# Altium schematic symbol library MCU_ST_STM32N6.SchLib: 1 symbol
Pins are listed as number, name and electrical type; pins without a type are passive.

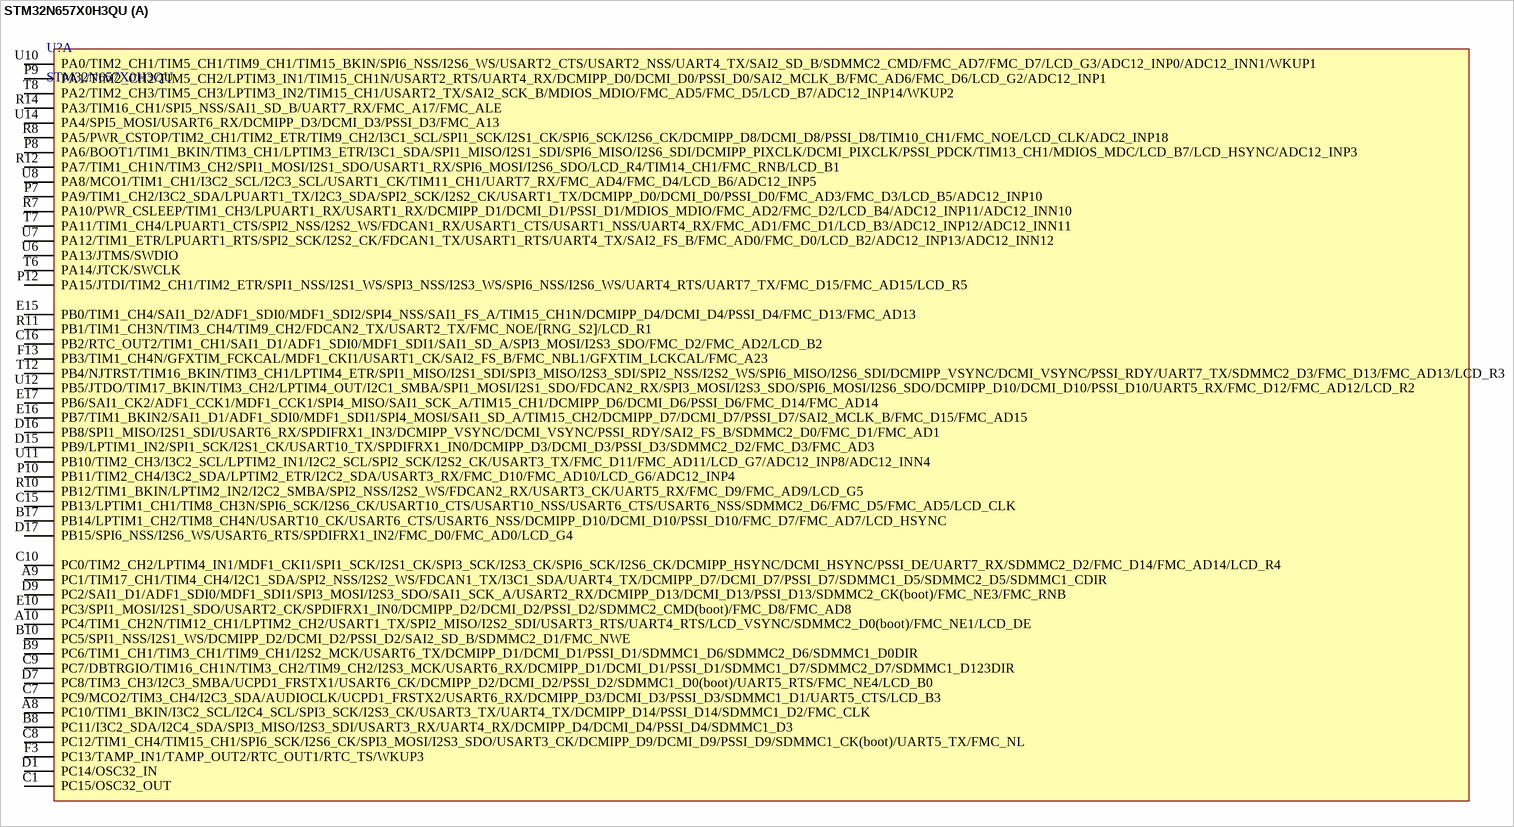
[diagram p0: symbol STM32N657X0H3QU]

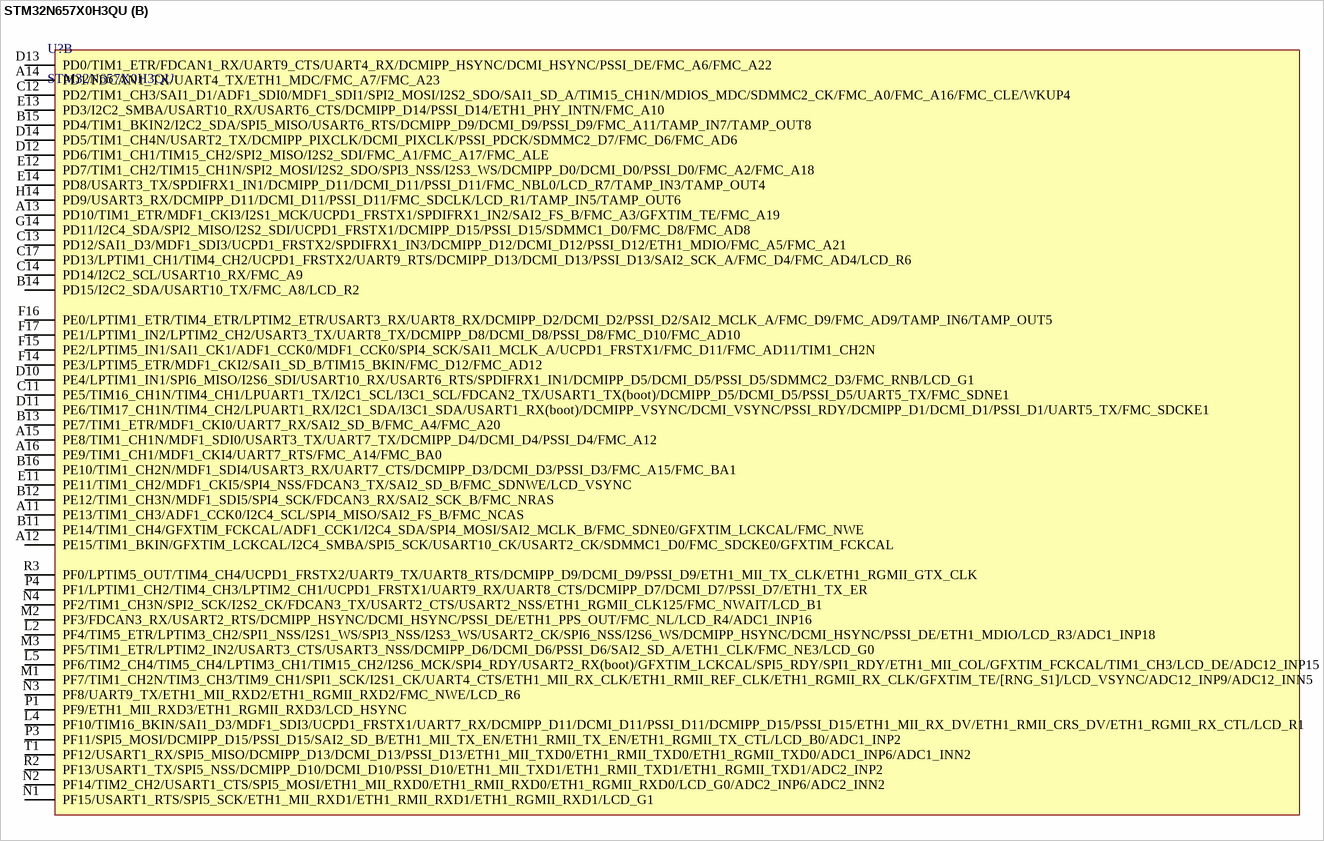
[diagram p1: symbol STM32N657X0H3QU]

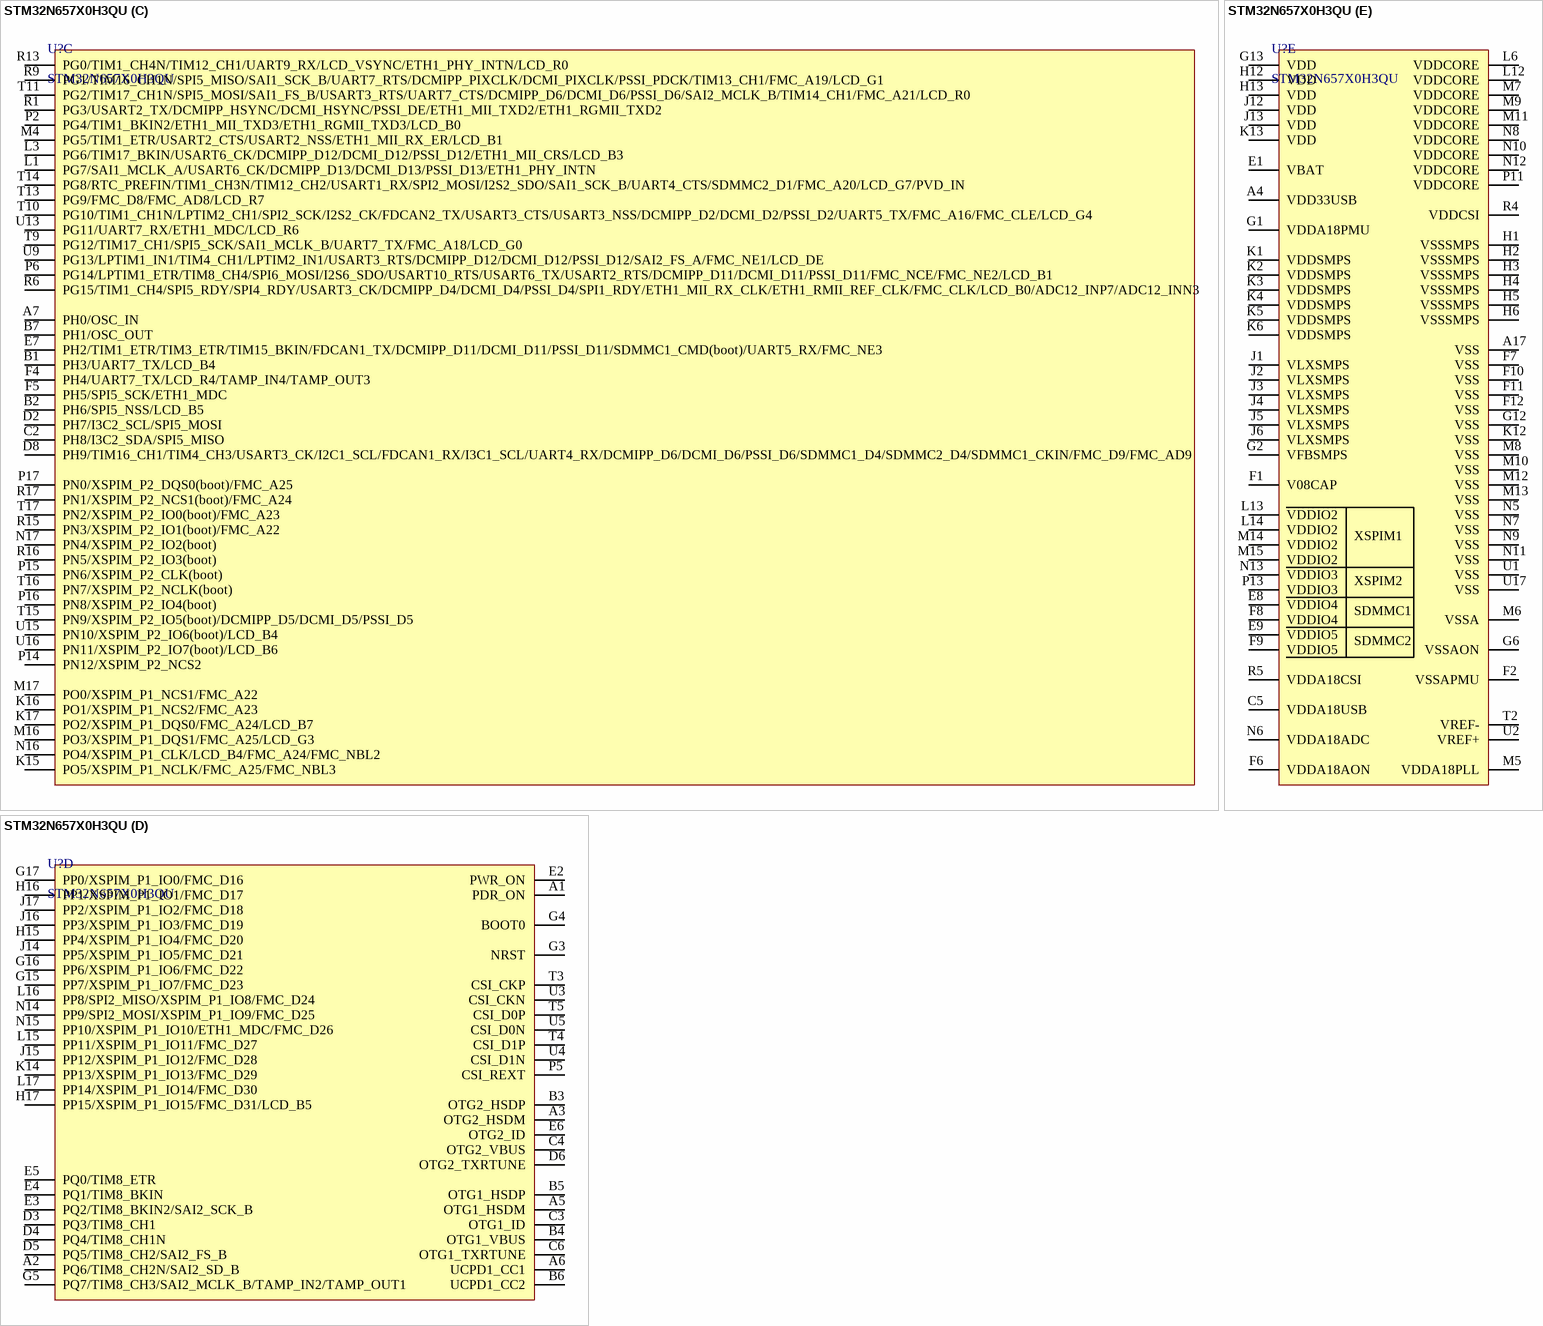
[diagram p2: symbol STM32N657X0H3QU]

## STM32N657X0H3QU
designator U?
STMicroelectronics Arm Cortex-M55 MCU, 0Kb Flash, 4.2MB RAM, 800 MHz, 1.62-3.6V, 165 GPIO, VFBGA264
footprint VFBGA-264_14x14mm_P0.8mm_Ball0.43mm_Pad0.36mm
part A pins: A8 PC10/TIM1_BKIN/I3C2_SCL/I2C4_SCL/SPI3_SCK/I2S3_CK/USART3_TX/UART4_TX/DCMIPP_D14/PSSI_D14/SDMMC1_D2/FMC_CLK, A9 PC1/TIM17_CH1/TIM4_CH4/I2C1_SDA/SPI2_NSS/I2S2_WS/FDCAN1_TX/I3C1_SDA/UART4_TX/DCMIPP_D7/DCMI_D7/PSSI_D7/SDMMC1_D5/SDMMC2_D5/SDMMC1_CDIR, A10 PC4/TIM1_CH2N/TIM12_CH1/LPTIM2_CH2/USART1_TX/SPI2_MISO/I2S2_SDI/USART3_RTS/UART4_RTS/LCD_VSYNC/SDMMC2_D0(boot)/FMC_NE1/LCD_DE, B8 PC11/I3C2_SDA/I2C4_SDA/SPI3_MISO/I2S3_SDI/USART3_RX/UART4_RX/DCMIPP_D4/DCMI_D4/PSSI_D4/SDMMC1_D3, B9 PC6/TIM1_CH1/TIM3_CH1/TIM9_CH1/I2S2_MCK/USART6_TX/DCMIPP_D1/DCMI_D1/PSSI_D1/SDMMC1_D6/SDMMC2_D6/SDMMC1_D0DIR, B10 PC5/SPI1_NSS/I2S1_WS/DCMIPP_D2/DCMI_D2/PSSI_D2/SAI2_SD_B/SDMMC2_D1/FMC_NWE, B17 PB14/LPTIM1_CH2/TIM8_CH4N/USART10_CK/USART6_CTS/USART6_NSS/DCMIPP_D10/DCMI_D10/PSSI_D10/FMC_D7/FMC_AD7/LCD_HSYNC, C1 PC15/OSC32_OUT, C7 PC9/MCO2/TIM3_CH4/I2C3_SDA/AUDIOCLK/UCPD1_FRSTX2/USART6_RX/DCMIPP_D3/DCMI_D3/PSSI_D3/SDMMC1_D1/UART5_CTS/LCD_B3, C8 PC12/TIM1_CH4/TIM15_CH1/SPI6_SCK/I2S6_CK/SPI3_MOSI/I2S3_SDO/USART3_CK/DCMIPP_D9/DCMI_D9/PSSI_D9/SDMMC1_CK(boot)/UART5_TX/FMC_NL, C9 PC7/DBTRGIO/TIM16_CH1N/TIM3_CH2/TIM9_CH2/I2S3_MCK/USART6_RX/DCMIPP_D1/DCMI_D1/PSSI_D1/SDMMC1_D7/SDMMC2_D7/SDMMC1_D123DIR, C10 PC0/TIM2_CH2/LPTIM4_IN1/MDF1_CKI1/SPI1_SCK/I2S1_CK/SPI3_SCK/I2S3_CK/SPI6_SCK/I2S6_CK/DCMIPP_HSYNC/DCMI_HSYNC/PSSI_DE/UART7_RX/SDMMC2_D2/FMC_D14/FMC_AD14/LCD_R4, C15 PB13/LPTIM1_CH1/TIM8_CH3N/SPI6_SCK/I2S6_CK/USART10_CTS/USART10_NSS/USART6_CTS/USART6_NSS/SDMMC2_D6/FMC_D5/FMC_AD5/LCD_CLK, C16 PB2/RTC_OUT2/TIM1_CH1/SAI1_D1/ADF1_SDI0/MDF1_SDI1/SAI1_SD_A/SPI3_MOSI/I2S3_SDO/FMC_D2/FMC_AD2/LCD_B2, D1 PC14/OSC32_IN, D7 PC8/TIM3_CH3/I2C3_SMBA/UCPD1_FRSTX1/USART6_CK/DCMIPP_D2/DCMI_D2/PSSI_D2/SDMMC1_D0(boot)/UART5_RTS/FMC_NE4/LCD_B0, D9 PC2/SAI1_D1/ADF1_SDI0/MDF1_SDI1/SPI3_MOSI/I2S3_SDO/SAI1_SCK_A/USART2_RX/DCMIPP_D13/DCMI_D13/PSSI_D13/SDMMC2_CK(boot)/FMC_NE3/FMC_RNB, D15 PB9/LPTIM1_IN2/SPI1_SCK/I2S1_CK/USART10_TX/SPDIFRX1_IN0/DCMIPP_D3/DCMI_D3/PSSI_D3/SDMMC2_D2/FMC_D3/FMC_AD3, D16 PB8/SPI1_MISO/I2S1_SDI/USART6_RX/SPDIFRX1_IN3/DCMIPP_VSYNC/DCMI_VSYNC/PSSI_RDY/SAI2_FS_B/SDMMC2_D0/FMC_D1/FMC_AD1, D17 PB15/SPI6_NSS/I2S6_WS/USART6_RTS/SPDIFRX1_IN2/FMC_D0/FMC_AD0/LCD_G4, E10 PC3/SPI1_MOSI/I2S1_SDO/USART2_CK/SPDIFRX1_IN0/DCMIPP_D2/DCMI_D2/PSSI_D2/SDMMC2_CMD(boot)/FMC_D8/FMC_AD8, E15 PB0/TIM1_CH4/SAI1_D2/ADF1_SDI0/MDF1_SDI2/SPI4_NSS/SAI1_FS_A/TIM15_CH1N/DCMIPP_D4/DCMI_D4/PSSI_D4/FMC_D13/FMC_AD13, E16 PB7/TIM1_BKIN2/SAI1_D1/ADF1_SDI0/MDF1_SDI1/SPI4_MOSI/SAI1_SD_A/TIM15_CH2/DCMIPP_D7/DCMI_D7/PSSI_D7/SAI2_MCLK_B/FMC_D15/FMC_AD15, E17 PB6/SAI1_CK2/ADF1_CCK1/MDF1_CCK1/SPI4_MISO/SAI1_SCK_A/TIM15_CH1/DCMIPP_D6/DCMI_D6/PSSI_D6/FMC_D14/FMC_AD14, F3 PC13/TAMP_IN1/TAMP_OUT2/RTC_OUT1/RTC_TS/WKUP3, F13 PB3/TIM1_CH4N/GFXTIM_FCKCAL/MDF1_CKI1/USART1_CK/SAI2_FS_B/FMC_NBL1/GFXTIM_LCKCAL/FMC_A23, P7 PA9/TIM1_CH2/I3C2_SDA/LPUART1_TX/I2C3_SDA/SPI2_SCK/I2S2_CK/USART1_TX/DCMIPP_D0/DCMI_D0/PSSI_D0/FMC_AD3/FMC_D3/LCD_B5/ADC12_INP10, P8 PA6/BOOT1/TIM1_BKIN/TIM3_CH1/LPTIM3_ETR/I3C1_SDA/SPI1_MISO/I2S1_SDI/SPI6_MISO/I2S6_SDI/DCMIPP_PIXCLK/DCMI_PIXCLK/PSSI_PDCK/TIM13_CH1/MDIOS_MDC/LCD_B7/LCD_HSYNC/ADC12_INP3, P9 PA1/TIM2_CH2/TIM5_CH2/LPTIM3_IN1/TIM15_CH1N/USART2_RTS/UART4_RX/DCMIPP_D0/DCMI_D0/PSSI_D0/SAI2_MCLK_B/FMC_AD6/FMC_D6/LCD_G2/ADC12_INP1, P10 PB11/TIM2_CH4/I3C2_SDA/LPTIM2_ETR/I2C2_SDA/USART3_RX/FMC_D10/FMC_AD10/LCD_G6/ADC12_INP4, P12 PA15/JTDI/TIM2_CH1/TIM2_ETR/SPI1_NSS/I2S1_WS/SPI3_NSS/I2S3_WS/SPI6_NSS/I2S6_WS/UART4_RTS/UART7_TX/FMC_D15/FMC_AD15/LCD_R5, R7 PA10/PWR_CSLEEP/TIM1_CH3/LPUART1_RX/USART1_RX/DCMIPP_D1/DCMI_D1/PSSI_D1/MDIOS_MDIO/FMC_AD2/FMC_D2/LCD_B4/ADC12_INP11/ADC12_INN10, R8 PA5/PWR_CSTOP/TIM2_CH1/TIM2_ETR/TIM9_CH2/I3C1_SCL/SPI1_SCK/I2S1_CK/SPI6_SCK/I2S6_CK/DCMIPP_D8/DCMI_D8/PSSI_D8/TIM10_CH1/FMC_NOE/LCD_CLK/ADC2_INP18, R10 PB12/TIM1_BKIN/LPTIM2_IN2/I2C2_SMBA/SPI2_NSS/I2S2_WS/FDCAN2_RX/USART3_CK/UART5_RX/FMC_D9/FMC_AD9/LCD_G5, R11 PB1/TIM1_CH3N/TIM3_CH4/TIM9_CH2/FDCAN2_TX/USART2_TX/FMC_NOE/[RNG_S2]/LCD_R1, R12 PA7/TIM1_CH1N/TIM3_CH2/SPI1_MOSI/I2S1_SDO/USART1_RX/SPI6_MOSI/I2S6_SDO/LCD_R4/TIM14_CH1/FMC_RNB/LCD_B1, R14 PA3/TIM16_CH1/SPI5_NSS/SAI1_SD_B/UART7_RX/FMC_A17/FMC_ALE, T6 PA14/JTCK/SWCLK, T7 PA11/TIM1_CH4/LPUART1_CTS/SPI2_NSS/I2S2_WS/FDCAN1_RX/USART1_CTS/USART1_NSS/UART4_RX/FMC_AD1/FMC_D1/LCD_B3/ADC12_INP12/ADC12_INN11, T8 PA2/TIM2_CH3/TIM5_CH3/LPTIM3_IN2/TIM15_CH1/USART2_TX/SAI2_SCK_B/MDIOS_MDIO/FMC_AD5/FMC_D5/LCD_B7/ADC12_INP14/WKUP2, T12 PB4/NJTRST/TIM16_BKIN/TIM3_CH1/LPTIM4_ETR/SPI1_MISO/I2S1_SDI/SPI3_MISO/I2S3_SDI/SPI2_NSS/I2S2_WS/SPI6_MISO/I2S6_SDI/DCMIPP_VSYNC/DCMI_VSYNC/PSSI_RDY/UART7_TX/SDMMC2_D3/FMC_D13/FMC_AD13/LCD_R3, U6 PA13/JTMS/SWDIO, U7 PA12/TIM1_ETR/LPUART1_RTS/SPI2_SCK/I2S2_CK/FDCAN1_TX/USART1_RTS/UART4_TX/SAI2_FS_B/FMC_AD0/FMC_D0/LCD_B2/ADC12_INP13/ADC12_INN12, U8 PA8/MCO1/TIM1_CH1/I3C2_SCL/I2C3_SCL/USART1_CK/TIM11_CH1/UART7_RX/FMC_AD4/FMC_D4/LCD_B6/ADC12_INP5, U10 PA0/TIM2_CH1/TIM5_CH1/TIM9_CH1/TIM15_BKIN/SPI6_NSS/I2S6_WS/USART2_CTS/USART2_NSS/UART4_TX/SAI2_SD_B/SDMMC2_CMD/FMC_AD7/FMC_D7/LCD_G3/ADC12_INP0/ADC12_INN1/WKUP1, U11 PB10/TIM2_CH3/I3C2_SCL/LPTIM2_IN1/I2C2_SCL/SPI2_SCK/I2S2_CK/USART3_TX/FMC_D11/FMC_AD11/LCD_G7/ADC12_INP8/ADC12_INN4, U12 PB5/JTDO/TIM17_BKIN/TIM3_CH2/LPTIM4_OUT/I2C1_SMBA/SPI1_MOSI/I2S1_SDO/FDCAN2_RX/SPI3_MOSI/I2S3_SDO/SPI6_MOSI/I2S6_SDO/DCMIPP_D10/DCMI_D10/PSSI_D10/UART5_RX/FMC_D12/FMC_AD12/LCD_R2, U14 PA4/SPI5_MOSI/USART6_RX/DCMIPP_D3/DCMI_D3/PSSI_D3/FMC_A13
part B pins: A11 PE13/TIM1_CH3/ADF1_CCK0/I2C4_SCL/SPI4_MISO/SAI2_FS_B/FMC_NCAS, A12 PE15/TIM1_BKIN/GFXTIM_LCKCAL/I2C4_SMBA/SPI5_SCK/USART10_CK/USART2_CK/SDMMC1_D0/FMC_SDCKE0/GFXTIM_FCKCAL, A13 PD10/TIM1_ETR/MDF1_CKI3/I2S1_MCK/UCPD1_FRSTX1/SPDIFRX1_IN2/SAI2_FS_B/FMC_A3/GFXTIM_TE/FMC_A19, A14 PD1/FDCAN1_TX/UART4_TX/ETH1_MDC/FMC_A7/FMC_A23, A15 PE8/TIM1_CH1N/MDF1_SDI0/USART3_TX/UART7_TX/DCMIPP_D4/DCMI_D4/PSSI_D4/FMC_A12, A16 PE9/TIM1_CH1/MDF1_CKI4/UART7_RTS/FMC_A14/FMC_BA0, B11 PE14/TIM1_CH4/GFXTIM_FCKCAL/ADF1_CCK1/I2C4_SDA/SPI4_MOSI/SAI2_MCLK_B/FMC_SDNE0/GFXTIM_LCKCAL/FMC_NWE, B12 PE12/TIM1_CH3N/MDF1_SDI5/SPI4_SCK/FDCAN3_RX/SAI2_SCK_B/FMC_NRAS, B13 PE7/TIM1_ETR/MDF1_CKI0/UART7_RX/SAI2_SD_B/FMC_A4/FMC_A20, B14 PD15/I2C2_SDA/USART10_TX/FMC_A8/LCD_R2, B15 PD4/TIM1_BKIN2/I2C2_SDA/SPI5_MISO/USART6_RTS/DCMIPP_D9/DCMI_D9/PSSI_D9/FMC_A11/TAMP_IN7/TAMP_OUT8, B16 PE10/TIM1_CH2N/MDF1_SDI4/USART3_RX/UART7_CTS/DCMIPP_D3/DCMI_D3/PSSI_D3/FMC_A15/FMC_BA1, C11 PE5/TIM16_CH1N/TIM4_CH1/LPUART1_TX/I2C1_SCL/I3C1_SCL/FDCAN2_TX/USART1_TX(boot)/DCMIPP_D5/DCMI_D5/PSSI_D5/UART5_TX/FMC_SDNE1, C12 PD2/TIM1_CH3/SAI1_D1/ADF1_SDI0/MDF1_SDI1/SPI2_MOSI/I2S2_SDO/SAI1_SD_A/TIM15_CH1N/MDIOS_MDC/SDMMC2_CK/FMC_A0/FMC_A16/FMC_CLE/WKUP4, C13 PD12/SAI1_D3/MDF1_SDI3/UCPD1_FRSTX2/SPDIFRX1_IN3/DCMIPP_D12/DCMI_D12/PSSI_D12/ETH1_MDIO/FMC_A5/FMC_A21, C14 PD14/I2C2_SCL/USART10_RX/FMC_A9, C17 PD13/LPTIM1_CH1/TIM4_CH2/UCPD1_FRSTX2/UART9_RTS/DCMIPP_D13/DCMI_D13/PSSI_D13/SAI2_SCK_A/FMC_D4/FMC_AD4/LCD_R6, D10 PE4/LPTIM1_IN1/SPI6_MISO/I2S6_SDI/USART10_RX/USART6_RTS/SPDIFRX1_IN1/DCMIPP_D5/DCMI_D5/PSSI_D5/SDMMC2_D3/FMC_RNB/LCD_G1, D11 PE6/TIM17_CH1N/TIM4_CH2/LPUART1_RX/I2C1_SDA/I3C1_SDA/USART1_RX(boot)/DCMIPP_VSYNC/DCMI_VSYNC/PSSI_RDY/DCMIPP_D1/DCMI_D1/PSSI_D1/UART5_TX/FMC_SDCKE1, D12 PD6/TIM1_CH1/TIM15_CH2/SPI2_MISO/I2S2_SDI/FMC_A1/FMC_A17/FMC_ALE, D13 PD0/TIM1_ETR/FDCAN1_RX/UART9_CTS/UART4_RX/DCMIPP_HSYNC/DCMI_HSYNC/PSSI_DE/FMC_A6/FMC_A22, D14 PD5/TIM1_CH4N/USART2_TX/DCMIPP_PIXCLK/DCMI_PIXCLK/PSSI_PDCK/SDMMC2_D7/FMC_D6/FMC_AD6, E11 PE11/TIM1_CH2/MDF1_CKI5/SPI4_NSS/FDCAN3_TX/SAI2_SD_B/FMC_SDNWE/LCD_VSYNC, E12 PD7/TIM1_CH2/TIM15_CH1N/SPI2_MOSI/I2S2_SDO/SPI3_NSS/I2S3_WS/DCMIPP_D0/DCMI_D0/PSSI_D0/FMC_A2/FMC_A18, E13 PD3/I2C2_SMBA/USART10_RX/USART6_CTS/DCMIPP_D14/PSSI_D14/ETH1_PHY_INTN/FMC_A10, E14 PD8/USART3_TX/SPDIFRX1_IN1/DCMIPP_D11/DCMI_D11/PSSI_D11/FMC_NBL0/LCD_R7/TAMP_IN3/TAMP_OUT4, F14 PE3/LPTIM5_ETR/MDF1_CKI2/SAI1_SD_B/TIM15_BKIN/FMC_D12/FMC_AD12, F15 PE2/LPTIM5_IN1/SAI1_CK1/ADF1_CCK0/MDF1_CCK0/SPI4_SCK/SAI1_MCLK_A/UCPD1_FRSTX1/FMC_D11/FMC_AD11/TIM1_CH2N, F16 PE0/LPTIM1_ETR/TIM4_ETR/LPTIM2_ETR/USART3_RX/UART8_RX/DCMIPP_D2/DCMI_D2/PSSI_D2/SAI2_MCLK_A/FMC_D9/FMC_AD9/TAMP_IN6/TAMP_OUT5, F17 PE1/LPTIM1_IN2/LPTIM2_CH2/USART3_TX/UART8_TX/DCMIPP_D8/DCMI_D8/PSSI_D8/FMC_D10/FMC_AD10, G14 PD11/I2C4_SDA/SPI2_MISO/I2S2_SDI/UCPD1_FRSTX1/DCMIPP_D15/PSSI_D15/SDMMC1_D0/FMC_D8/FMC_AD8, H14 PD9/USART3_RX/DCMIPP_D11/DCMI_D11/PSSI_D11/FMC_SDCLK/LCD_R1/TAMP_IN5/TAMP_OUT6, L2 PF4/TIM5_ETR/LPTIM3_CH2/SPI1_NSS/I2S1_WS/SPI3_NSS/I2S3_WS/USART2_CK/SPI6_NSS/I2S6_WS/DCMIPP_HSYNC/DCMI_HSYNC/PSSI_DE/ETH1_MDIO/LCD_R3/ADC1_INP18, L4 PF10/TIM16_BKIN/SAI1_D3/MDF1_SDI3/UCPD1_FRSTX1/UART7_RX/DCMIPP_D11/DCMI_D11/PSSI_D11/DCMIPP_D15/PSSI_D15/ETH1_MII_RX_DV/ETH1_RMII_CRS_DV/ETH1_RGMII_RX_CTL/LCD_R1, L5 PF6/TIM2_CH4/TIM5_CH4/LPTIM3_CH1/TIM15_CH2/I2S6_MCK/SPI4_RDY/USART2_RX(boot)/GFXTIM_LCKCAL/SPI5_RDY/SPI1_RDY/ETH1_MII_COL/GFXTIM_FCKCAL/TIM1_CH3/LCD_DE/ADC12_INP15, M1 PF7/TIM1_CH2N/TIM3_CH3/TIM9_CH1/SPI1_SCK/I2S1_CK/UART4_CTS/ETH1_MII_RX_CLK/ETH1_RMII_REF_CLK/ETH1_RGMII_RX_CLK/GFXTIM_TE/[RNG_S1]/LCD_VSYNC/ADC12_INP9/ADC12_INN5, M2 PF3/FDCAN3_RX/USART2_RTS/DCMIPP_HSYNC/DCMI_HSYNC/PSSI_DE/ETH1_PPS_OUT/FMC_NL/LCD_R4/ADC1_INP16, M3 PF5/TIM1_ETR/LPTIM2_IN2/USART3_CTS/USART3_NSS/DCMIPP_D6/DCMI_D6/PSSI_D6/SAI2_SD_A/ETH1_CLK/FMC_NE3/LCD_G0, N1 PF15/USART1_RTS/SPI5_SCK/ETH1_MII_RXD1/ETH1_RMII_RXD1/ETH1_RGMII_RXD1/LCD_G1, N2 PF14/TIM2_CH2/USART1_CTS/SPI5_MOSI/ETH1_MII_RXD0/ETH1_RMII_RXD0/ETH1_RGMII_RXD0/LCD_G0/ADC2_INP6/ADC2_INN2, N3 PF8/UART9_TX/ETH1_MII_RXD2/ETH1_RGMII_RXD2/FMC_NWE/LCD_R6, N4 PF2/TIM1_CH3N/SPI2_SCK/I2S2_CK/FDCAN3_TX/USART2_CTS/USART2_NSS/ETH1_RGMII_CLK125/FMC_NWAIT/LCD_B1, P1 PF9/ETH1_MII_RXD3/ETH1_RGMII_RXD3/LCD_HSYNC, P3 PF11/SPI5_MOSI/DCMIPP_D15/PSSI_D15/SAI2_SD_B/ETH1_MII_TX_EN/ETH1_RMII_TX_EN/ETH1_RGMII_TX_CTL/LCD_B0/ADC1_INP2, P4 PF1/LPTIM1_CH2/TIM4_CH3/LPTIM2_CH1/UCPD1_FRSTX1/UART9_RX/UART8_CTS/DCMIPP_D7/DCMI_D7/PSSI_D7/ETH1_TX_ER, R2 PF13/USART1_TX/SPI5_NSS/DCMIPP_D10/DCMI_D10/PSSI_D10/ETH1_MII_TXD1/ETH1_RMII_TXD1/ETH1_RGMII_TXD1/ADC2_INP2, R3 PF0/LPTIM5_OUT/TIM4_CH4/UCPD1_FRSTX2/UART9_TX/UART8_RTS/DCMIPP_D9/DCMI_D9/PSSI_D9/ETH1_MII_TX_CLK/ETH1_RGMII_GTX_CLK, T1 PF12/USART1_RX/SPI5_MISO/DCMIPP_D13/DCMI_D13/PSSI_D13/ETH1_MII_TXD0/ETH1_RMII_TXD0/ETH1_RGMII_TXD0/ADC1_INP6/ADC1_INN2
part C pins: A7 PH0/OSC_IN, B1 PH3/UART7_TX/LCD_B4, B2 PH6/SPI5_NSS/LCD_B5, B7 PH1/OSC_OUT, C2 PH8/I3C2_SDA/SPI5_MISO, D2 PH7/I3C2_SCL/SPI5_MOSI, D8 PH9/TIM16_CH1/TIM4_CH3/USART3_CK/I2C1_SCL/FDCAN1_RX/I3C1_SCL/UART4_RX/DCMIPP_D6/DCMI_D6/PSSI_D6/SDMMC1_D4/SDMMC2_D4/SDMMC1_CKIN/FMC_D9/FMC_AD9, E7 PH2/TIM1_ETR/TIM3_ETR/TIM15_BKIN/FDCAN1_TX/DCMIPP_D11/DCMI_D11/PSSI_D11/SDMMC1_CMD(boot)/UART5_RX/FMC_NE3, F4 PH4/UART7_TX/LCD_R4/TAMP_IN4/TAMP_OUT3, F5 PH5/SPI5_SCK/ETH1_MDC, K15 PO5/XSPIM_P1_NCLK/FMC_A25/FMC_NBL3, K16 PO1/XSPIM_P1_NCS2/FMC_A23, K17 PO2/XSPIM_P1_DQS0/FMC_A24/LCD_B7, L1 PG7/SAI1_MCLK_A/USART6_CK/DCMIPP_D13/DCMI_D13/PSSI_D13/ETH1_PHY_INTN, L3 PG6/TIM17_BKIN/USART6_CK/DCMIPP_D12/DCMI_D12/PSSI_D12/ETH1_MII_CRS/LCD_B3, M4 PG5/TIM1_ETR/USART2_CTS/USART2_NSS/ETH1_MII_RX_ER/LCD_B1, M16 PO3/XSPIM_P1_DQS1/FMC_A25/LCD_G3, M17 PO0/XSPIM_P1_NCS1/FMC_A22, N16 PO4/XSPIM_P1_CLK/LCD_B4/FMC_A24/FMC_NBL2, N17 PN4/XSPIM_P2_IO2(boot), P2 PG4/TIM1_BKIN2/ETH1_MII_TXD3/ETH1_RGMII_TXD3/LCD_B0, P6 PG14/LPTIM1_ETR/TIM8_CH4/SPI6_MOSI/I2S6_SDO/USART10_RTS/USART6_TX/USART2_RTS/DCMIPP_D11/DCMI_D11/PSSI_D11/FMC_NCE/FMC_NE2/LCD_B1, P14 PN12/XSPIM_P2_NCS2, P15 PN6/XSPIM_P2_CLK(boot), P16 PN8/XSPIM_P2_IO4(boot), P17 PN0/XSPIM_P2_DQS0(boot)/FMC_A25, R1 PG3/USART2_TX/DCMIPP_HSYNC/DCMI_HSYNC/PSSI_DE/ETH1_MII_TXD2/ETH1_RGMII_TXD2, R6 PG15/TIM1_CH4/SPI5_RDY/SPI4_RDY/USART3_CK/DCMIPP_D4/DCMI_D4/PSSI_D4/SPI1_RDY/ETH1_MII_RX_CLK/ETH1_RMII_REF_CLK/FMC_CLK/LCD_B0/ADC12_INP7/ADC12_INN3, R9 PG1/TIM16_CH1N/SPI5_MISO/SAI1_SCK_B/UART7_RTS/DCMIPP_PIXCLK/DCMI_PIXCLK/PSSI_PDCK/TIM13_CH1/FMC_A19/LCD_G1, R13 PG0/TIM1_CH4N/TIM12_CH1/UART9_RX/LCD_VSYNC/ETH1_PHY_INTN/LCD_R0, R15 PN3/XSPIM_P2_IO1(boot)/FMC_A22, R16 PN5/XSPIM_P2_IO3(boot), R17 PN1/XSPIM_P2_NCS1(boot)/FMC_A24, T9 PG12/TIM17_CH1/SPI5_SCK/SAI1_MCLK_B/UART7_TX/FMC_A18/LCD_G0, T10 PG10/TIM1_CH1N/LPTIM2_CH1/SPI2_SCK/I2S2_CK/FDCAN2_TX/USART3_CTS/USART3_NSS/DCMIPP_D2/DCMI_D2/PSSI_D2/UART5_TX/FMC_A16/FMC_CLE/LCD_G4, T11 PG2/TIM17_CH1N/SPI5_MOSI/SAI1_FS_B/USART3_RTS/UART7_CTS/DCMIPP_D6/DCMI_D6/PSSI_D6/SAI2_MCLK_B/TIM14_CH1/FMC_A21/LCD_R0, T13 PG9/FMC_D8/FMC_AD8/LCD_R7, T14 PG8/RTC_PREFIN/TIM1_CH3N/TIM12_CH2/USART1_RX/SPI2_MOSI/I2S2_SDO/SAI1_SCK_B/UART4_CTS/SDMMC2_D1/FMC_A20/LCD_G7/PVD_IN, T15 PN9/XSPIM_P2_IO5(boot)/DCMIPP_D5/DCMI_D5/PSSI_D5, T16 PN7/XSPIM_P2_NCLK(boot), T17 PN2/XSPIM_P2_IO0(boot)/FMC_A23, U9 PG13/LPTIM1_IN1/TIM4_CH1/LPTIM2_IN1/USART3_RTS/DCMIPP_D12/DCMI_D12/PSSI_D12/SAI2_FS_A/FMC_NE1/LCD_DE, U13 PG11/UART7_RX/ETH1_MDC/LCD_R6, U15 PN10/XSPIM_P2_IO6(boot)/LCD_B4, U16 PN11/XSPIM_P2_IO7(boot)/LCD_B6
part D pins: A1 PDR_ON, A2 PQ6/TIM8_CH2N/SAI2_SD_B, A3 OTG2_HSDM, A5 OTG1_HSDM, A6 UCPD1_CC1, B3 OTG2_HSDP, B4 OTG1_VBUS, B5 OTG1_HSDP, B6 UCPD1_CC2, C3 OTG1_ID, C4 OTG2_VBUS, C6 OTG1_TXRTUNE, D3 PQ3/TIM8_CH1, D4 PQ4/TIM8_CH1N, D5 PQ5/TIM8_CH2/SAI2_FS_B, D6 OTG2_TXRTUNE, E2 PWR_ON, E3 PQ2/TIM8_BKIN2/SAI2_SCK_B, E4 PQ1/TIM8_BKIN, E5 PQ0/TIM8_ETR, E6 OTG2_ID, G3 NRST, G4 BOOT0, G5 PQ7/TIM8_CH3/SAI2_MCLK_B/TAMP_IN2/TAMP_OUT1, G15 PP7/XSPIM_P1_IO7/FMC_D23, G16 PP6/XSPIM_P1_IO6/FMC_D22, G17 PP0/XSPIM_P1_IO0/FMC_D16, H15 PP4/XSPIM_P1_IO4/FMC_D20, H16 PP1/XSPIM_P1_IO1/FMC_D17, H17 PP15/XSPIM_P1_IO15/FMC_D31/LCD_B5, J14 PP5/XSPIM_P1_IO5/FMC_D21, J15 PP12/XSPIM_P1_IO12/FMC_D28, J16 PP3/XSPIM_P1_IO3/FMC_D19, J17 PP2/XSPIM_P1_IO2/FMC_D18, K14 PP13/XSPIM_P1_IO13/FMC_D29, L15 PP11/XSPIM_P1_IO11/FMC_D27, L16 PP8/SPI2_MISO/XSPIM_P1_IO8/FMC_D24, L17 PP14/XSPIM_P1_IO14/FMC_D30, N14 PP9/SPI2_MOSI/XSPIM_P1_IO9/FMC_D25, N15 PP10/XSPIM_P1_IO10/ETH1_MDC/FMC_D26, P5 CSI_REXT, T3 CSI_CKP, T4 CSI_D1P, T5 CSI_D0P, U3 CSI_CKN, U4 CSI_D1N, U5 CSI_D0N
part E pins: A4 VDD33USB, A17 VSS, C5 VDDA18USB, E1 VBAT, E8 VDDIO4, E9 VDDIO5, F1 V08CAP, F2 VSSAPMU, F6 VDDA18AON, F7 VSS, F8 VDDIO4, F9 VDDIO5, F10 VSS, F11 VSS, F12 VSS, G1 VDDA18PMU, G2 VFBSMPS, G6 VSSAON, G12 VSS, G13 VDD, H1 VSSSMPS, H2 VSSSMPS, H3 VSSSMPS, H4 VSSSMPS, H5 VSSSMPS, H6 VSSSMPS, H12 VDD, H13 VDD, J1 VLXSMPS, J2 VLXSMPS, J3 VLXSMPS, J4 VLXSMPS, J5 VLXSMPS, J6 VLXSMPS, J12 VDD, J13 VDD, K1 VDDSMPS, K2 VDDSMPS, K3 VDDSMPS, K4 VDDSMPS, K5 VDDSMPS, K6 VDDSMPS, K12 VSS, K13 VDD, L6 VDDCORE, L12 VDDCORE, L13 VDDIO2, L14 VDDIO2, M5 VDDA18PLL, M6 VSSA, M7 VDDCORE, M8 VSS, M9 VDDCORE, M10 VSS, M11 VDDCORE, M12 VSS, M13 VSS, M14 VDDIO2, M15 VDDIO2, N5 VSS, N6 VDDA18ADC, N7 VSS, N8 VDDCORE, N9 VSS, N10 VDDCORE, N11 VSS, N12 VDDCORE, N13 VDDIO3, P11 VDDCORE, P13 VDDIO3, R4 VDDCSI, R5 VDDA18CSI, T2 VREF-, U1 VSS, U2 VREF+, U17 VSS
part E text: XSPIM1; XSPIM2; SDMMC1; SDMMC2